# Altium schematic symbol library LPC1758FBD80551.SchLib: 1 symbol
Pins are listed as number, name and electrical type; pins without a type are passive.

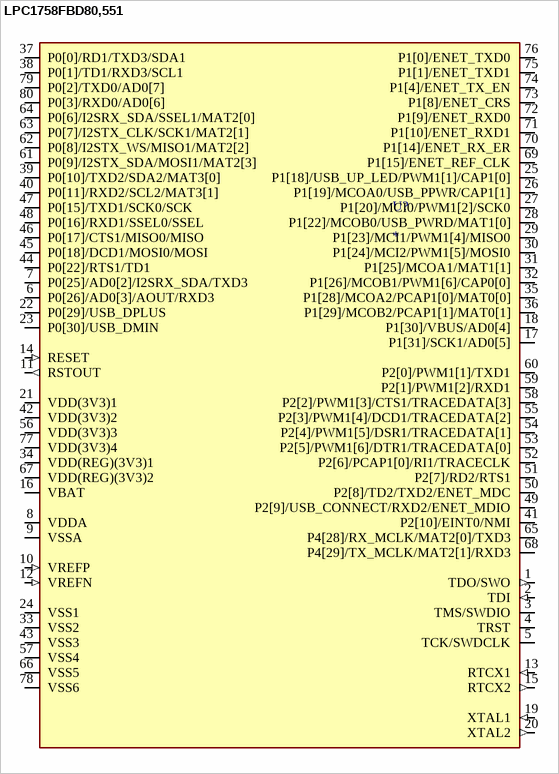
[diagram p0: symbol LPC1758FBD80,551]

## LPC1758FBD80,551
designator U?
<b>LPC1758 </b><p>100 MHz 32-bit ARM Cortex-M3 based microcontroller featuring a high level of integration and low power consumption. 512 kB Flash, 64 kB SRAM, USB Device/Host/OTG, 2 CAN, DAC, Ethernet </p><author>MarcVl - Datasheet available on www.nxp.com</author> <p><img src="http://www.nxp.com/img/NXP_logo.png">; MF: {'manufacturer': u'NXP Semiconductors'}; MP: LPC1758FBD80,551; Value: *; Package: None; Availability: Unavailable; Price: None
footprint SOT315-1
pins: 1 TDO/SWO (out), 2 TDI (in), 3 TMS/SWDIO (io), 4 TRST (io), 5 TCK/SWDCLK (io), 6 P0[26]/AD0[3]/AOUT/RXD3 (io), 7 P0[25]/AD0[2]/I2SRX_SDA/TXD3 (io), 8 VDDA (power), 9 VSSA (power), 10 VREFP (in), 11 RSTOUT (out), 12 VREFN (in), 13 RTCX1 (in), 14 RESET (in), 15 RTCX2 (out), 16 VBAT (power), 17 P1[31]/SCK1/AD0[5] (io), 18 P1[30]/VBUS/AD0[4] (io), 19 XTAL1 (in), 20 XTAL2 (out), 21 VDD(3V3)1 (power), 22 P0[29]/USB_DPLUS (io), 23 P0[30]/USB_DMIN (io), 24 VSS1 (power), 25 P1[18]/USB_UP_LED/PWM1[1]/CAP1[0] (io), 26 P1[19]/MCOA0/USB_PPWR/CAP1[1] (io), 27 P1[20]/MCI0/PWM1[2]/SCK0 (io), 28 P1[22]/MCOB0/USB_PWRD/MAT1[0] (io), 29 P1[23]/MCI1/PWM1[4]/MISO0 (io), 30 P1[24]/MCI2/PWM1[5]/MOSI0 (io), 31 P1[25]/MCOA1/MAT1[1] (io), 32 P1[26]/MCOB1/PWM1[6]/CAP0[0] (io), 33 VSS2 (power), 34 VDD(REG)(3V3)1 (power), 35 P1[28]/MCOA2/PCAP1[0]/MAT0[0] (io), 36 P1[29]/MCOB2/PCAP1[1]/MAT0[1] (io), 37 P0[0]/RD1/TXD3/SDA1 (io), 38 P0[1]/TD1/RXD3/SCL1 (io), 39 P0[10]/TXD2/SDA2/MAT3[0] (io), 40 P0[11]/RXD2/SCL2/MAT3[1] (io), 41 P2[10]/EINT0/NMI (io), 42 VDD(3V3)2 (power), 43 VSS3 (power), 44 P0[22]/RTS1/TD1 (io), 45 P0[18]/DCD1/MOSI0/MOSI (io), 46 P0[17]/CTS1/MISO0/MISO (io), 47 P0[15]/TXD1/SCK0/SCK (io), 48 P0[16]/RXD1/SSEL0/SSEL (io), 49 P2[9]/USB_CONNECT/RXD2/ENET_MDIO (io), 50 P2[8]/TD2/TXD2/ENET_MDC (io), 51 P2[7]/RD2/RTS1 (io), 52 P2[6]/PCAP1[0]/RI1/TRACECLK (io), 53 P2[5]/PWM1[6]/DTR1/TRACEDATA[0] (io), 54 P2[4]/PWM1[5]/DSR1/TRACEDATA[1] (io), 55 P2[3]/PWM1[4]/DCD1/TRACEDATA[2] (io), 56 VDD(3V3)3 (power), 57 VSS4 (power), 58 P2[2]/PWM1[3]/CTS1/TRACEDATA[3] (io), 59 P2[1]/PWM1[2]/RXD1 (io), 60 P2[0]/PWM1[1]/TXD1 (io), 61 P0[9]/I2STX_SDA/MOSI1/MAT2[3] (io), 62 P0[8]/I2STX_WS/MISO1/MAT2[2] (io), 63 P0[7]/I2STX_CLK/SCK1/MAT2[1] (io), 64 P0[6]/I2SRX_SDA/SSEL1/MAT2[0] (io), 65 P4[28]/RX_MCLK/MAT2[0]/TXD3 (io), 66 VSS5 (power), 67 VDD(REG)(3V3)2 (power), 68 P4[29]/TX_MCLK/MAT2[1]/RXD3 (io), 69 P1[15]/ENET_REF_CLK (io), 70 P1[14]/ENET_RX_ER (io), 71 P1[10]/ENET_RXD1 (io), 72 P1[9]/ENET_RXD0 (io), 73 P1[8]/ENET_CRS (io), 74 P1[4]/ENET_TX_EN (io), 75 P1[1]/ENET_TXD1 (io), 76 P1[0]/ENET_TXD0 (io), 77 VDD(3V3)4 (power), 78 VSS6 (power), 79 P0[2]/TXD0/AD0[7] (io), 80 P0[3]/RXD0/AD0[6] (io)